# EAGLE library part REG103 (library BeaverBoard)
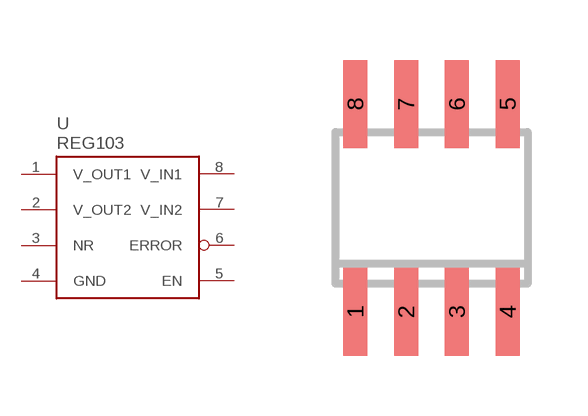
[diagram p8: symbol with the pads of SOIC8; footprint SOIC8]

Designator prefix -

## REG103  [SOIC8]
1  V_OUT1  sup
2  V_OUT2  sup
3  NR  sup
4  GND  sup
5  EN
6  ERROR
7  V_IN2  sup
8  V_IN1  sup

## Footprint SOIC8 (pad centres in mm)
smd 0.6 x 2.2: 1 -1.905,-2.6; 2 -0.635,-2.6; 3 0.635,-2.6; 4 1.905,-2.6; 5 1.905,2.6; 6 0.635,2.6; 7 -0.635,2.6; 8 -1.905,2.6